# EAGLE library part LTC2315-12 (library tof_v5)
12-bit 5Msps ADC
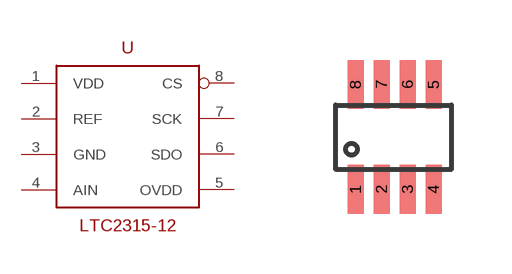
[diagram p0: symbol with the pads of TSOT-23; footprint TSOT-23]

Designator prefix -

## LTC2315-12  [TSOT-23]
1  VDD  pwr
2  REF
3  GND  pwr
4  AIN  in
5  OVDD  pwr
6  SDO  hiz
7  SCK  in
8  CS  in

## Footprint TSOT-23 (pad centres in mm)
smd 0.4 x 1.22: 1 0,0; 2 0.65,0; 3 1.3,0; 4 1.95,0; 5 1.95,2.62; 6 1.3,2.62; 7 0.65,2.62; 8 0,2.62